# EAGLE library part AS6C4008-55PCN (library rcbussbc)
CMOS SRAM Source: Datasheet <http://componentsearchengine.com/Datasheets/1/AS6C4008-55PCN.pdf>
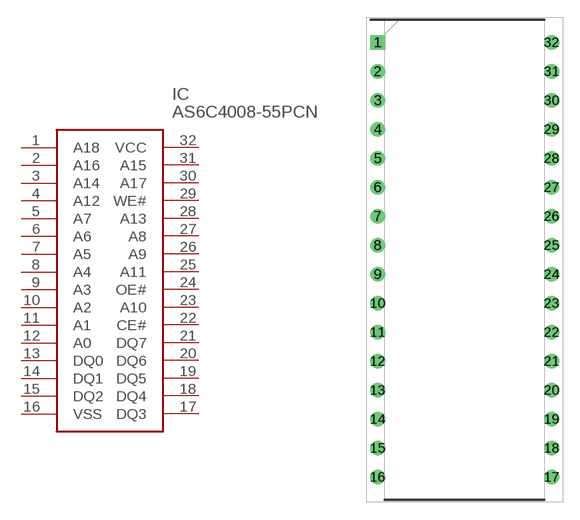
[diagram p7: symbol with the pads of DIP1524W58P254L4191H406Q32N; footprint DIP1524W58P254L4191H406Q32N]

Designator prefix IC

## AS6C4008-55PCN (DESCRIPTION: CMOS SRAM; HEIGHT: 4.064mm; MANUFACTURER_NAME: Alliance Memory; MANUFACTURER_PART_NUMBER: AS6C4008-55PCN; MOUSER_PART_NUMBER: 913-AS6C4008-55PCN; MOUSER_PRICE-STOCK: https://www.mouser.co.uk/ProductDetail/Alliance-Memory/AS6C4008-55PCN?qs=E5c5%252Bmu3i3%252BMOyro1Tlhzg%3D%3D)  [DIP1524W58P254L4191H406Q32N]
1  A18
2  A16
3  A14
4  A12
5  A7
6  A6
7  A5
8  A4
9  A3
10  A2
11  A1
12  A0
13  DQ0
14  DQ1
15  DQ2
16  VSS
17  DQ3
18  DQ4
19  DQ5
20  DQ6
21  DQ7
22  CE#
23  A10
24  OE#
25  A11
26  A9
27  A8
28  A13
29  WE#
30  A17
31  A15
32  VCC

## Footprint DIP1524W58P254L4191H406Q32N (pad centres in mm)
32 pin 600 mil P-DIP
drill 0.784 pad 1.184 square: 1 -7.62,19.05
drill 0.784 pad 1.184: 2 -7.62,16.51; 3 -7.62,13.97; 4 -7.62,11.43; 5 -7.62,8.89; 6 -7.62,6.35; 7 -7.62,3.81; 8 -7.62,1.27; 9 -7.62,-1.27; 10 -7.62,-3.81; 11 -7.62,-6.35; 12 -7.62,-8.89; 13 -7.62,-11.43; 14 -7.62,-13.97; 15 -7.62,-16.51; 16 -7.62,-19.05; 17 7.62,-19.05; 18 7.62,-16.51; 19 7.62,-13.97; 20 7.62,-11.43; 21 7.62,-8.89; 22 7.62,-6.35; 23 7.62,-3.81; 24 7.62,-1.27; 25 7.62,1.27; 26 7.62,3.81; 27 7.62,6.35; 28 7.62,8.89; 29 7.62,11.43; 30 7.62,13.97; 31 7.62,16.51; 32 7.62,19.05